# Altium schematic symbol library B-NT_P.SchLib: 39 symbols
Pins are listed as number, name and electrical type; pins without a type are passive.

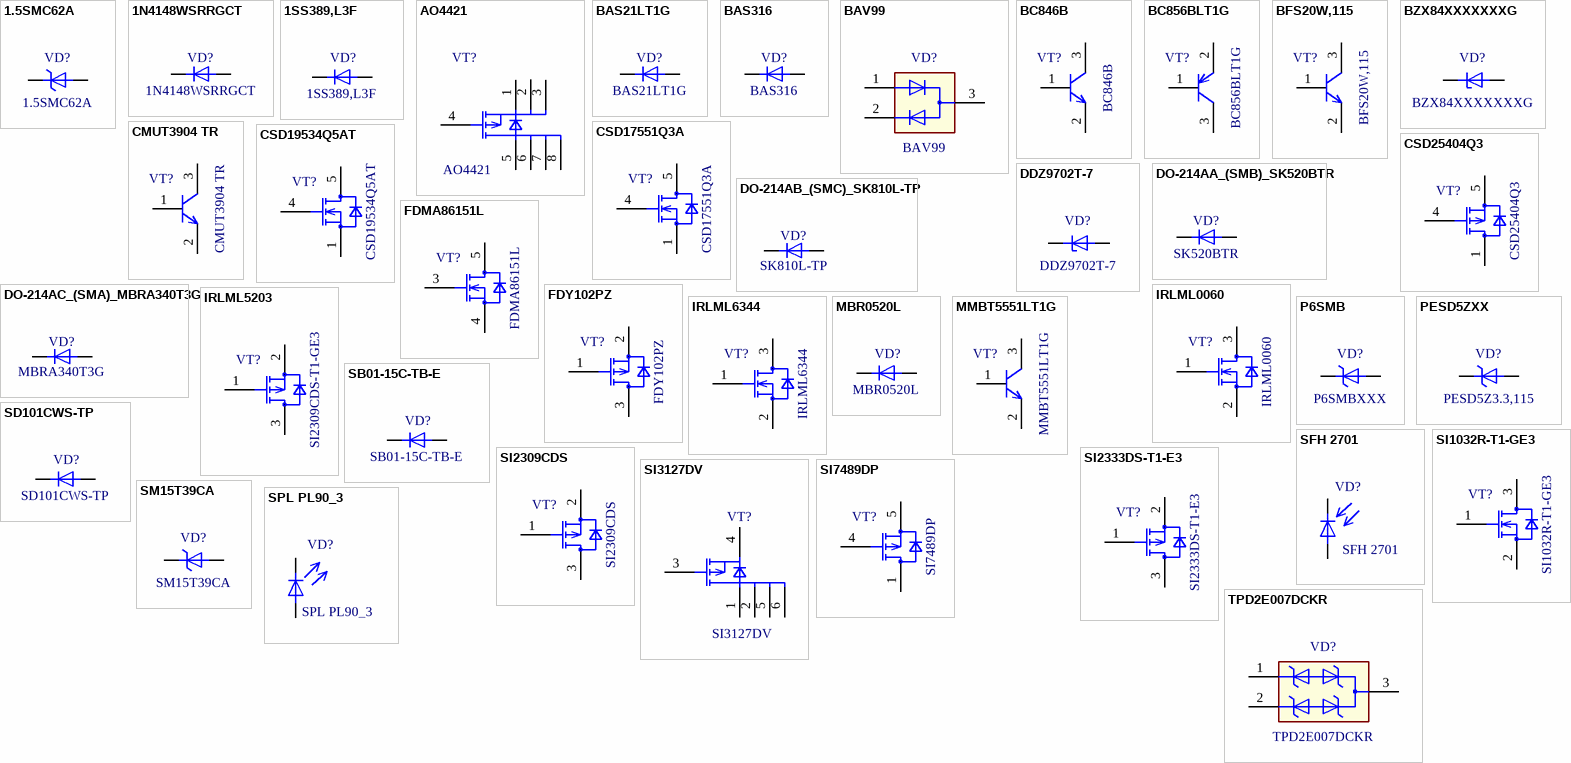
[diagram p0: symbols 1.5SMC62A to TPD2E007DCKR]

## 1.5SMC62A
designator VD?  value 1.5SMC62A
TVS DIODE 53V 85V DO214AB; ValueManufacturer: Vishay Semiconductor Diodes Division; PowerVoltage: 1.5kW; ValueDescription: 1.5SMC62A TVS диод 1.5kW  DO-214AB; ValueType: Zener Diodes; Price: 58.9V; ComponentLink1Description: r	Vishay Datasheet; ComponentLink1URL: http://www.vishay.com/docs/88303/15smc.pdf; Package: DO-214AB; ValueManufacturerPartNumber: 1.5SMC62A; Operating Temperature: -55°C ~ 150°C; CheckDate: SC *
footprint DO-214AB_(SMC)
pins: 1, 2
1 alternate drawing of the same symbol

## 1N4148WSRRGCT
designator VD?  value 1N4148WSRRGCT
DIODE GEN PURP 75V 150MA SOD323F; ValueManufacturer: Diodes Incorporated; PowerVoltage: 75V, 0.15A; ValueDescription: 1N4148WSRRGCT  SOD-323F  75V, 0.15A; ValueType: SMD Diode; Price: 0.17000; ComponentLink1Description: Taiwan Semiconductor Corporation Datasheet; ComponentLink1URL: http://www.taiwansemi.com/products/datasheet/1N4148WS%20SERIES_K1709.pdf; Package: SOD-323F; ValueManufacturerPartNumber: 1N4148WSRRGCT; Operating Temperature: -65°C~+150°C; CheckDate: *
footprint SOD-323F (SC-90, SOD-323F Body 1.8x1.35max)
pins: 1, 2

## 1SS389,L3F
designator VD?  value 1SS389,L3F
DIODE SCHOTTKY 10V 100MA ESC; ValueManufacturer: Toshiba Semiconductor and Storage; PowerVoltage: 10В 100мA(DC); TechSpec: (Vf) (Max) @ If=500mV @ 100mA; ValueDescription: 1SS389,L3F  SOD-523, SC-79  10В 100мA(DC)  (Vf) (Max) @ If=500mV @ 100mA; ValueType: Schottky Diode; Price: 0.22; Package: SOD-523, SC-79; ValueManufacturerPartNumber: 1SS389,L3F; Operating Temperature: -40°C ~ 125°C; CheckDate: SC *; ComponentLink1Description: Toshiba Semiconductor and Storage Datasheet; ComponentLink1URL: http://toshiba.semicon-storage.com/info/docget.jsp?did=3371&prodName=1SS389
footprint SOD-523
pins: 1 C, 2 A

## AO4421
designator VT?  value AO4421
MOSFET P-Channel 60V 6.2A 8SOIC; ValueManufacturer: Alpha&Omega; PowerVoltage: 60В 6.2A; ValueDescription: AO4421 Транзистор полевой P-канальный 60В 6.2A  soic-8; ValueType: MOSFET Transistor; Price: 0.81; ComponentLink1Description: Alpha&Omega; ComponentLink1URL: http://www.aosmd.com/res/data_sheets/AO4421.pdf; Package: soic-8; ValueManufacturerPartNumber: AO4421; Operating Temperature: -55°C~150°C; CheckDate: SC *
footprint SOP-8-3.9X5-1.27 (SOIC, 8-Leads, Body 5x4mm, Pitch 1.27mm, IPC Medium Density)
pins: 1 S "Source", 2 S "Source", 3 S "Source", 4 G "Gate", 5 D "Drain", 6 D "Drain", 7 D "Drain", 8 D "Drain"

## BAS21LT1G
designator VD?  value BAS21LT1G
SOT-23-3 Diode 250V 200mA; ValueManufacturer: ON Semiconductor; PowerVoltage: 250В 200мA; Tolerance: Vf=1.25V@200mA Ir=100nA@200V; ValueDescription: BAS21LT1G  SOT-23-3 (TO-236)  250В 200мA; ValueType: SMD Diode; Price: 0.11; ComponentLink1Description: ON Semiconductor Datasheet; ComponentLink1URL: http://www.onsemi.com/pub_link/Collateral/BAS19LT1-D.PDF; Package: SOT-23-3 (TO-236); ValueManufacturerPartNumber: BAS21LT1G; Operating Temperature: -55°C~150°C; CheckDate: SC 15.01.17
footprint TSOT23-3-1.4X3-0.95 (SOT23, 3-Leads, Body 3x1.4 mm, Pitch 0.95mm,)
pins: 1, 3

## BAS316
designator VD?  value BAS316
Diode 100V 250mA (DC) SOD-323; ValueManufacturer: Nexperia USA; PowerVoltage: 100В 250мA; Tolerance: Vf=1.25V@150мA Ir=100mkA@100V; ValueDescription: BAS316  SOD-323  100В 250мA; ValueType: SMD Diode; Price: 0.22; ComponentLink1Description: Nexperia USA; ComponentLink1URL: http://assets.nexperia.com/documents/data-sheet/BAS16_SER.pdf; Package: SOD-323; ValueManufacturerPartNumber: BAS316; Operating Temperature: -65°C~150°C; CheckDate: SC 22.03.17
footprint SOD-323
pins: 1, 2
1 alternate drawing of the same symbol

## BAV99
designator VD?  value BAV99
DIODE ARRAY GP 70V 200MA SOT23-3; ValueManufacturer: Fairchild; PowerVoltage: 70В 200мА; Tolerance: 1.25V@150mA; ValueDescription: BAV99  SOT-23-3 (TO-236) Сборка диодная 70В 200мА; Price: 0.21; ComponentLink1Description: Fairchild Datasheet; ComponentLink1URL: https://www.fairchildsemi.com/datasheets/BA/BAV99.pdf; Package: SOT-23-3 (TO-236); ValueManufacturerPartNumber: BAV99; ValueType: Diode Array; Operating Temperature: -55°C~150°C; CheckDate: SC 04.01.17
footprint TSOT23-3-1.4X3-0.95 (SOT23, 3-Leads, Body 3x1.4 mm, Pitch 0.95mm,)
pins: 1, 2, 3

## BC846B
designator VT?  value BC846B
BIPOLAR TRANS NPN 65V 0.1A SOT-23; ValueManufacturer: ON Semiconductor; PowerVoltage: 65В 100мА; ValueDescription: BC846B Транзистор биполярный NPN 65В 100мА  SOT-23-3 TO-236-3; ValueType: NPN Transistor; Price: 0.12; ComponentLink1Description: ON Semiconductor Datasheet; ComponentLink1URL: http://www.onsemi.ru.com/pub_link/Collateral/MMBT5550LT1-D.PDF; Package: SOT-23-3 TO-236-3; ValueManufacturerPartNumber: BC846B; Operating Temperature: 150°C (TJ); CheckDate: SC *
footprint TSOT23-3-1.4X3-0.95 (SOT23, 3-Leads, Body 3x1.4 mm, Pitch 0.95mm,)
pins: 1 B "Base", 2 E "Emiter", 3 C "Collector"

## BC856BLT1G
designator VT?  value BC856BLT1G
BIPOLAR TRANS PNP 65V 0.1A SOT23; ValueManufacturer: ON Semiconductor; PowerVoltage: 65В 100мА; ValueDescription: BC856BLT1G Транзистор биполярный PNP 65В 100мА  SOT-23-3 TO-236-3; ValueType: PNP Transistor; Price: 0.12; ComponentLink1Description: ON Semiconductor Datasheet; ComponentLink1URL: http://www.onsemi.ru.com/pub_link/Collateral/MMBT5550LT1-D.PDF; Package: SOT-23-3 TO-236-3; ValueManufacturerPartNumber: BC856BLT1G; Operating Temperature: -55°C ~ 150°C (TJ); CheckDate: SC *
footprint TSOT23-3-1.4X3-0.95 (SOT23, 3-Leads, Body 3x1.4 mm, Pitch 0.95mm,)
pins: 1 B "Base", 2 E "Emiter", 3 C "Collector"

## BFS20W,115
designator VT?  value BFS20W,115
BIPOLAR TRANS NPN 20V 0.025A SOT323; ValueManufacturer: Nexperia USA; PowerVoltage: 20В 25мА; ValueDescription: BFS20W,115 Транзистор биполярный NPN 20В 25мА  SOT-323, SC-70; ValueType: NPN Transistor; Price: 0.39; ComponentLink1Description: Nexperia USA  Datasheet; ComponentLink1URL: https://assets.nexperia.com/documents/data-sheet/BFS20W.pdf; Package: SOT-323, SC-70; ValueManufacturerPartNumber: BFS20W,115; Operating Temperature: 150°C (TJ); CheckDate: SC *
footprint SOT323-3-1.25X2.1-0.65 (SOT323, 3-Leads, Body 2x1.25mm, Pitch 0.65mm)
pins: 1 B "Base", 2 E "Emiter", 3 C "Collector"

## BZX84XXXXXXXG
designator VD?  value BZX84XXXXXXXG
ZENER DIODE 225MW SOT23-3; ValueManufacturer: Diodes Incorporated; ValueDescription: BZX84XXXXXXXG Стабилитрон 225mW  SOT-23-3; ValueType: Zener Diodes; Price: 0.16; ComponentLink1Description: Diodes Incorporated Datasheet; ComponentLink1URL: http://www.diodes.com/_files/datasheets/ds18001.pdf; Package: SOT-23-3; PowerVoltage: 225mW; ValueManufacturerPartNumber: BZX84XXXXXXXG; Operating Temperature: -65°C~150°C; CheckDate: SC 15.01.17
footprint TSOT23-3-1.4X3-0.95 (SOT23, 3-Leads, Body 3x1.4 mm, Pitch 0.95mm,)
pins: 1, 3

## CMUT3904 TR
designator VT?  value CMUT3904 TR
BIPOLAR TRANS NPN 40V 0.2A SOT523; ValueManufacturer: ON Semiconductor; PowerVoltage: 40В 200мА; ValueDescription: CMUT3904 TR Транзистор биполярный NPN 40В 200мА  SOT-523; ValueType: NPN Transistor; Price: 0.5; ComponentLink1Description: Central Semiconductor Corp Datasheet; ComponentLink1URL: https://www.centralsemi.com/get_document.php?cmp=1&mergetype=pd&mergepath=pd&pdf_id=CMUT3904-3906.PDF; Package: SOT-523; ValueManufacturerPartNumber: CMUT3904 TR; Operating Temperature: -65°C ~ 150°C (TJ); CheckDate: SC delete; PublicationData: 28.03.18; Publisher: Makarevich
footprint SOT523-1.6X0.8-1.0 (SOT523, 3-Leads, Body 1.6x0.8mm, Pitch 1mm)
pins: 1 B "Base", 2 E "Emiter", 3 C "Collector"

## CSD17551Q3A
designator VT?  value CSD17551Q3A
MOSFET N-CH 30V 12A 8SON 3.3x3.3; ValueManufacturer: Texas Instruments; PowerVoltage: 30V 12A; ValueDescription: CSD17551Q3A Транзистор полевой N-канальный 30V 12A  8-PowerTDFN(8-SON 3.3x3.3); ValueType: MOSFET Transistor; Price: 0.94; ComponentLink1Description: Texas Instruments Datasheet; ComponentLink1URL: http://www.ti.com/lit/ds/symlink/csd17551q3a.pdf; Package: 8-PowerTDFN(8-SON 3.3x3.3); ValueManufacturerPartNumber: CSD17551Q3A; Operating Temperature: -55°C~150°C; CheckDate: SC 28.10.17
footprint PSON-8-3.3x3.3-T (VSON, 8-Leads, Body 3.3x3.3mm, Pitch 0.65mm)
pins: 1 S "Source", 4 G "Gate", 5 D "Drain"

## CSD19534Q5AT
designator VT?  value CSD19534Q5AT
MOSFET N-Channel 100V 50A 8-VSON (5x6); ValueManufacturer: Texas Instruments; PowerVoltage: 100В 50A; ValueDescription: CSD19534Q5AT Транзистор полевой N-канальный 100В 50A  8-PowerTDFN(8-VSON 5x6); ValueType: MOSFET Transistor; Price: 1.12; ComponentLink1Description: Texas Instruments Datasheet; ComponentLink1URL: http://www.ti.com/lit/ds/symlink/csd19534q5a.pdf; Package: 8-PowerTDFN(8-VSON 5x6); ValueManufacturerPartNumber: CSD19534Q5AT; Operating Temperature: -55°C~150°C; CheckDate: SC 25.12.16
footprint PVSON-8-5X6-T (TDSON, 8-Leads, Body 6x5mm, Pitch 1.27mm)
pins: 1 S "Source", 4 G "Gate", 5 D "Drain"

## CSD25404Q3
designator VT?  value CSD25404Q3
MOSFET P-CH 20V 104A 8SON; ValueManufacturer: Texas Instruments; ValueDescription: CSD25404Q3 Транзистор полевой P-канальный 20V 104A  8-PowerVDFN (8-SON 3.3x3.3); ValueType: MOSFET Transistor; Price: 1.18; ComponentLink1Description: Texas Instruments Datasheet; ComponentLink1URL: http://www.ti.com/lit/ds/symlink/csd25404q3.pdf; Package: 8-PowerVDFN (8-SON 3.3x3.3); PowerVoltage: 20V 104A; ValueManufacturerPartNumber: CSD25404Q3; Operating Temperature: -55°C~150°C; CheckDate: SC 28.10.17
footprint PSON-8-3.3x3.3-T (VSON, 8-Leads, Body 3.3x3.3mm, Pitch 0.65mm)
pins: 1 S "Source", 4 G "Gate", 5 D "Drain"

## DDZ9702T-7
designator VD?  value DDZ9702T-7
DIODE ZENER 15V 150MW SOD523; ValueManufacturer: Diodes Incorporated; PowerVoltage: 15V, 150mW; Tolerance: ±5%; ValueDescription: DDZ9702T-7 Стабилитрон 15V, 150mW  SOD-523; ValueType: Zener Diodes; Price: 0.51; ComponentLink1Description: Diodes Incorporated Datasheet; ComponentLink1URL: https://www.diodes.com/assets/Datasheets/ds30553.pdf; Package: SOD-523; ValueManufacturerPartNumber: DDZ9702T-7; Operating Temperature: -65°C~150°C; CheckDate: SC *
footprint SOD-523
pins: 1, 2
1 alternate drawing of the same symbol

## DO-214AA_(SMB)_SK520BTR
designator VD?  value SK520BTR
SMB Diode Schottky 200V 5A; ValueManufacturer: SMC Diode Solutions; PowerVoltage: 200В 5A; Tolerance: Vf=1.1V@5A Ir=1mA@200V; ValueDescription: SK520BTR  DO-214AA (SMB)  200В 5A; ValueType: SMD Diode; Price: 0.5; ComponentLink1Description: SMC Diode Solutions Datasheet; ComponentLink1URL: http://www.smc-diodes.com/propdf/SK520B%20N0952%20REV.-.pdf; Package: DO-214AA (SMB); ValueManufacturerPartNumber: SK520BTR; Operating Temperature: -55°C~150°C; CheckDate: SC 18.12.16
footprint DO-214AA_(SMB)
pins: 1, 2
1 alternate drawing of the same symbol

## DO-214AB_(SMC)_SK810L-TP
designator VD?  value SK810L-TP
SMC Diode Schottky 100V 8A; ValueManufacturer: SMC Diode Solutions; PowerVoltage: 100В 8A; Tolerance: Vf=800mV@8A Ir=1mA@100V; ValueDescription: SK810L-TP  DO-214AB (SMC)  100В 8A; ValueType: SMD Diode; Price: 0.75; ComponentLink1Description: SMC Diode Solutions Datasheet; ComponentLink1URL: http://www.mccsemi.com/up_pdf/SK82L-SK810L(SMC).PDF; Package: DO-214AB (SMC); ValueManufacturerPartNumber: SK810L-TP; Operating Temperature: -55°C~150°C; CheckDate: SC 18.12.16
footprint DO-214AB_(SMC)
pins: 1, 2
1 alternate drawing of the same symbol

## DO-214AC_(SMA)_MBRA340T3G
designator VD?  value MBRA340T3G
SMA Diode Schottky 40V 3A; ValueManufacturer: ON Semiconductor; PowerVoltage: 40В 3A; Tolerance: Vf=450mV@3A Ir=500µA@100V; ValueDescription: MBRA340T3G  DO-214AC (SMA)  40В 3A; ValueType: SMD Diode; Price: 0.5; ComponentLink1Description: ON Semiconductor Datasheet; ComponentLink1URL: http://www.onsemi.com/pub_link/Collateral/MBRA340T3-D.PDF; Package: DO-214AC (SMA); ValueManufacturerPartNumber: MBRA340T3G; Operating Temperature: -55°C~150°C; CheckDate: SC 18.12.16
footprint DO-214AC_(SMA)
pins: 1, 2
1 alternate drawing of the same symbol

## FDMA86151L
designator VT?  value FDMA86151L
MOSFET N-CH 100V 3.3A 6-MLP; ValueManufacturer: ON Semiconductor; ValueDescription: FDMA86151L Транзистор полевой N-канальный 100V 3.3A  6-MicroFET (2x2) (6-WDFN Exposed Pad); ValueType: MOSFET Transistor; Price: 0.92; ComponentLink1Description: ON Semiconductor Datasheet; ComponentLink1URL: https://www.fairchildsemi.com/datasheets/FD/FDMA86151L.pdf; Package: 6-MicroFET (2x2) (6-WDFN Exposed Pad); PowerVoltage: 100V 3.3A; ValueManufacturerPartNumber: FDMA86151L; Operating Temperature: -55°C ~ 150°C (TJ); CheckDate: SC *
footprint WDFN-6-2x2- 0.65_FDMA86151L
pins: 3 G "Gate", 4 S "Source", 5 D "Drain"

## FDY102PZ
designator VT?  value FDY102PZ
MOSFET P-CH 20V 0.83A SC89-3; ValueManufacturer: ON Semiconductor; PowerVoltage: 20В 830mA; ValueDescription: FDY102PZ Транзистор полевой P-канальный 20В 830mA  SC-89 SOT-490; ValueType: MOSFET Transistor; Price: 0.58; ComponentLink1Description: ON Semiconductor Datasheet; ComponentLink1URL: https://www.fairchildsemi.com/datasheets/FD/FDY102PZ.pdf; Package: SC-89 SOT-490; ValueManufacturerPartNumber: FDY102PZ; Operating Temperature: -55°C~150°C; CheckDate: SC *
footprint SC-89-3 (SC-89-3, 3-Leads, Body 1,60x1,60mm, Pitch 0,50mm, IPC Medium Density)
pins: 1 G "Gate", 2 S "Source", 3 D "Drain"

## IRLML0060
designator VT?  value IRLML0060
MOSFET N-CH 60V 2.7A SOT-23-3; ValueManufacturer: Infineon Technologies; PowerVoltage: 60В 2.7A; ValueDescription: IRLML0060 Транзистор полевой N-канальный 60В 2.7A  SOT-23-3 TO-236-3; ValueType: MOSFET Transistor; Price: 0.57; ComponentLink1Description: Infineon Technologies Datasheet; ComponentLink1URL: https://www.infineon.com/dgdl/irlml0060pbf.pdf?fileId=5546d462533600a40153566493ef25e6; Package: SOT-23-3 TO-236-3; ValueManufacturerPartNumber: IRLML0060; Operating Temperature: -55°C~150°C; CheckDate: SC 04.05.18
footprint TSOT23-3-1.4X3-0.95 (SOT23, 3-Leads, Body 3x1.4 mm, Pitch 0.95mm,)
pins: 1 B "Base", 2 E "Ground", 3 C "Collector"

## IRLML5203
designator VT?  value SI2309CDS-T1-GE3
MOSFET P-CH 30V 3A SOT-23-3; ValueManufacturer: Infineon Technologies; PowerVoltage: 30В 3A; ValueDescription: SI2309CDS-T1-GE3 Транзистор полевой P-канальный 30В 3A  SOT-23-3 TO-236-3; ValueType: MOSFET Transistor; Price: 0.36; ComponentLink1Description: Infineon Technologies Datasheet; ComponentLink1URL: http://www.infineon.com/dgdl/irlml5203pbf.pdf?fileId=5546d462533600a40153566868da261d; Package: SOT-23-3 TO-236-3; ValueManufacturerPartNumber: SI2309CDS-T1-GE3; Operating Temperature: -55°C~150°C; CheckDate: SC 03.03.17
footprint TSOT23-3-1.4X3-0.95 (SOT23, 3-Leads, Body 3x1.4 mm, Pitch 0.95mm,)
pins: 1 B "Base", 2 E "Ground", 3 C "Collector"

## IRLML6344
designator VT?  value IRLML6344
MOSFET N-CH 30V 5A SOT-23-3; ValueManufacturer: Infineon Technologies; PowerVoltage: 30В 5A; ValueDescription: IRLML6344 Транзистор полевой N-канальный 30В 5A  SOT-23-3 TO-236-3; ValueType: MOSFET Transistor; Price: 0.36; ComponentLink1Description: Infineon Technologies Datasheet; ComponentLink1URL: http://www.infineon.com/dgdl/irlml6344pbf.pdf?fileId=5546d462533600a4015356689c44262c; Package: SOT-23-3 TO-236-3; ValueManufacturerPartNumber: IRLML6344; Operating Temperature: -55°C~150°C; CheckDate: SC 25.12.16
footprint TSOT23-3-1.4X3-0.95 (SOT23, 3-Leads, Body 3x1.4 mm, Pitch 0.95mm,)
pins: 1 B "Base", 2 E "Ground", 3 C "Collector"

## MBR0520L
designator VD?  value MBR0520L
DIODE SCHOTTKY 20V 500MA SOD123; ValueManufacturer: ON Semiconductor; PowerVoltage: 20В 500мA; TechSpec: (Vf) (Max) @ If=385mV @ 500mA; ValueDescription: MBR0520L  SOD-123  20В 500мA  (Vf) (Max) @ If=385mV @ 500mA; ValueType: Schottky Diode; Price: 0.39; Package: SOD-123; ValueManufacturerPartNumber: MBR0520L; Operating Temperature: -65°C~125°C; CheckDate: SC *; ComponentLink1Description: ON Semiconductor Datasheet; ComponentLink1URL: https://www.fairchildsemi.com/datasheets/MB/MBR0520L.pdf
footprint sod-123 (SODFL, 2-Leads, Body 1,60x3,75mm, IPC Medium Density)
pins: 1 C, 2 A

## MMBT5551LT1G
designator VT?  value MMBT5551LT1G
NPN Bipolar Transistor 160V 600mA SOT-23-3; ValueManufacturer: ON Semiconductor; PowerVoltage: 160В 600мА; ValueDescription: MMBT5551LT1G Транзистор биполярный NPN 160В 600мА  SOT-23-3 TO-236-3; ValueType: NPN Transistor; Price: 0.20; ComponentLink1Description: ON Semiconductor Datasheet; ComponentLink1URL: http://www.onsemi.ru.com/pub_link/Collateral/MMBT5550LT1-D.PDF; Package: SOT-23-3 TO-236-3; ValueManufacturerPartNumber: MMBT5551LT1G; Operating Temperature: -55°C~150°C; CheckDate: SC 25.12.16
footprint TSOT23-3-1.4X3-0.95 (SOT23, 3-Leads, Body 3x1.4 mm, Pitch 0.95mm,)
pins: 1 B "Base", 2 E "Emiter", 3 C "Collector"

## P6SMB
designator VD?  value P6SMBXXX
TVS Diodes 600W DO-214AA (SMB); ValueManufacturer: Littelfuse; ValueManufacturerPartNumber: P6SMB; PowerVoltage: 600Вт; ValueDescription: P6SMBXXX TVS диод 600Вт  DO-214AA (SMB); Price: 0.45; ComponentLink1Description: Littelfuse Datasheet; ComponentLink1URL: http://www.littelfuse.com/~/media/electronics/datasheets/tvs_diodes/littelfuse_tvs_diode_p6smb_datasheet.pdf.pdf; Package: DO-214AA (SMB); ValueType: TVS Diodes; Operating Temperature: -55°C~150°C; CheckDate: SC 25.12.16
footprint DO-214AA_(SMB)
pins: 1, 2
1 alternate drawing of the same symbol

## PESD5ZXX
designator VD?  value PESD5Z3.3,115
TVS DIODE 3.3V 18VC SOD523; ValueManufacturer: Nexperia USA; PowerVoltage: 18V, 260kW; ValueDescription: PESD5Z3.3,115 TVS диод 18V, 260kW  SOD-523; Price: 0.46; ComponentLink1Description: Nexperia USA Datasheet; ComponentLink1URL: http://assets.nexperia.com/documents/data-sheet/PESD5ZX_SER.pdf; Package: SOD-523; ValueManufacturerPartNumber: PESD5Z3.3,115; ValueType: TVS DIODE; Operating Temperature: -65°C~150°C; CheckDate: SC 12.11.17
footprint SOD-523
pins: 1, 2
1 alternate drawing of the same symbol

## SB01-15C-TB-E
designator VD?  value SB01-15C-TB-E
DIODE SCHOTTKY 150V 100MA; ValueManufacturer: ON Semiconductor; PowerVoltage: 150В 100мA(DC); TechSpec: (Vf) (Max) @ If=750mV @ 100mA; ValueDescription: SB01-15C-TB-E  TO-236-3, SC-59, SOT-23-3  150В 100мA(DC)  (Vf) (Max) @ If=750mV @ 100mA; ValueType: Schottky Diode; Price: 0.44; Package: TO-236-3, SC-59, SOT-23-3; ValueManufacturerPartNumber: SB01-15C-TB-E; Operating Temperature: -55°C ~ 125°C; CheckDate: SC *; ComponentLink1Description: ON Semiconductor Datasheet; ComponentLink1URL: http://www.onsemi.com/pub/Collateral/SB01-15C-D.PDF
footprint TSOT23-3-1.4X3-0.95 (SOT23, 3-Leads, Body 3x1.4 mm, Pitch 0.95mm,)
pins: 1 A, 3 C

## SD101CWS-TP
designator VD?  value SD101CWS-TP
DIODE SCHOTTKY 40V 15MA SOD323; ValueManufacturer: Micro Commercial Co; PowerVoltage: 40В 15мA(DC); TechSpec: (Vf) (Max) @ If=900mV @ 15mA; ValueDescription: SD101CWS-TP  SOD-323, SC-76  40В 15мA(DC)  (Vf) (Max) @ If=900mV @ 15mA; ValueType: Schottky Diode; Price: 0.37; ComponentLink1Description: Micro Commercial Datasheet; ComponentLink1URL: http://www.mccsemi.com/up_pdf/SD101AWS-SD101CWS(SOD-323).PDF; Package: SOD-323, SC-76; ValueManufacturerPartNumber: SD101CWS-TP; Operating Temperature: -55°C ~ 125°C; CheckDate: SC *
footprint SOD-323 (SC-76, SOD-323 Body 1.8x1.35max)
pins: 1 C, 2 A

## SFH 2701
designator VD?  value SFH 2701
PHOTODIODE PIN 820NM SMD; ValueManufacturer: OSRAM Opto Semiconductors Inc; ValueDescription: SFH 2701  2-SMD; Price: 0.96; ComponentLink1Description: OSRAM Opto Semiconductors  Datasheet; ComponentLink1URL: https://dammedia.osram.info/media/resource/hires/osram-dam-2495903/SFH%202701.pdf; Package: 2-SMD; Tolerance: 820nm; ValueManufacturerPartNumber: SFH 2701; ValueType: PHOTODIODE PIN; Operating Temperature: -40°C ~ 85°C; CheckDate: SC *
footprint SFH 2701 (Body 1.65x3.35 mm max)
pins: 1 С, 2 A

## SI1032R-T1-GE3
designator VT?  value SI1032R-T1-GE3
MOSFET N-CH 20V 140MA SC-75A; ValueManufacturer: Vishay Siliconix; PowerVoltage: 20В 140mA; ValueDescription: SI1032R-T1-GE3 Транзистор полевой N-канальный 20В 140mA  SC-75A; ValueType: MOSFET Transistor; Price: 0.54; ComponentLink1Description: Vishay Datasheet; ComponentLink1URL: http://www.vishay.com/docs/71172/si1032r.pdf; Package: SC-75A; ValueManufacturerPartNumber: SI1032R-T1-GE3; Operating Temperature: -55°C~150°C; CheckDate: SC *
footprint sc-75a (SC-75A, 3-Leads, Body 1,58x1,60mm, Pitch 0,50mm, IPC Medium Density)
pins: 1 G "Base", 2 S "Ground", 3 D "Collector"

## SI2309CDS
designator VT?  value SI2309CDS
MOSFET P-CH 60V 1.6A SOT23-3; ValueManufacturer: Vishay Siliconix; ValueManufacturerPartNumber: SI2309CDS-T1-GE3; PowerVoltage: 60В 1.6A; ValueDescription: SI2309CDS Транзистор полевой P-канальный 60В 1.6A  SOT-23-3 TO-236-3; ValueType: MOSFET Transistor; Price: 0.68; ComponentLink1Description: Vishay Siliconix Datasheet; ComponentLink1URL: http://www.vishay.com/docs/68980/si2309cd.pdf; Package: SOT-23-3 TO-236-3; Operating Temperature: -55°C~150°C; CheckDate: SC 04.05.18
footprint TSOT23-3-1.4X3-0.95 (SOT23, 3-Leads, Body 3x1.4 mm, Pitch 0.95mm,)
pins: 1 B "Base", 2 E "Ground", 3 C "Collector"

## SI2333DS-T1-E3
designator VT?  value SI2333DS-T1-E3
MOSFET P-CH 12V 4.1A SOT23-3; ValueManufacturer: Vishay Siliconix; PowerVoltage: 12В 4.1A; ValueDescription: SI2333DS-T1-E3 Транзистор полевой P-канальный 12В 4.1A  SOT-23-3; ValueType: MOSFET Transistor; Price: 0.82; Package: SOT-23-3; ValueManufacturerPartNumber: SI2333DS-T1-E3; Operating Temperature: -50°C~50°C; CheckDate: *; ComponentLink1Description: Vishay Datasheet; ComponentLink1URL: http://www.vishay.com/docs/72023/72023.pdf
footprint TSOT23-3-1.4X3-0.95 (SOT23, 3-Leads, Body 3x1.4 mm, Pitch 0.95mm,)
pins: 1 B "Base", 2 E "Ground", 3 C "Collector"

## SI3127DV
designator VT?  value SI3127DV
MOSFET P-CHAN 60V TSOP6S; ValueManufacturer: Vishay Siliconix; PowerVoltage: 60В 3.5A; ValueDescription: SI3127DV Транзистор полевой P-канальный 60В 3.5A  6-TSOP; ValueType: MOSFET Transistor; Price: 0.52; ComponentLink1Description: Vishay Siliconix Datasheet; ComponentLink1URL: http://www.vishay.com/docs/64282/si3127dv.pdf; Package: 6-TSOP; ValueManufacturerPartNumber: SI3127DV; Operating Temperature: -55°C~150°C; CheckDate: SC *
footprint TSOT23-6-1.4X3-0.95 (SSOT, 6-Leads, Body 2,9x1,75mm, Pitch 0,55mm)
pins: 1 D "Drain", 2 D "Drain", 3 G "Gate", 4 S "Source", 5 D "Drain", 6 D "Drain"

## SI7489DP
designator VT?  value SI7489DP
MOSFET P-CH 100V 28A 8-VSON (5x6); ValueManufacturer: Vishay Siliconix; PowerVoltage: 100В 28A; ValueDescription: SI7489DP Транзистор полевой P-канальный 100В 28A  8-PowerTDFN (8-VSON 5x6); ValueType: MOSFET Transistor; Price: 2.86; ComponentLink1Description: Vishay Siliconix Datasheet; ComponentLink1URL: http://www.vishay.com/docs/73436/si7489dp.pdf; Package: 8-PowerTDFN (8-VSON 5x6); ValueManufacturerPartNumber: SI7489DP; Operating Temperature: -55°C~150°C; CheckDate: SC 28.10.17
footprint PVSON-8-5X6-T (TDSON, 8-Leads, Body 6x5mm, Pitch 1.27mm)
pins: 1 S "Source", 4 G "Gate", 5 D "Drain"

## SM15T39CA
designator VD?  value SM15T39CA
TVS DIODE 33.3V 69.7V SMC; ValueManufacturer: STMicroelectronics; PowerVoltage: 1.5kW; ValueDescription: SM15T39CA TVS диод 1.5kW  DO-214AB; Price: 0.75; ComponentLink1Description: ST Datasheet; ComponentLink1URL: http://www.st.com/content/ccc/resource/technical/document/datasheet/a5/63/bb/0d/f0/b8/44/65/CD00000724.pdf/files/CD00000724.pdf/jcr:content/translations/en.CD00000724.pdf; Package: DO-214AB; ValueManufacturerPartNumber: SM15T39CA; ValueType: TVS Diode; Operating Temperature: -55°C~150°C; CheckDate: SC *
footprint DO-214AB_(SMC)
pins: 1, 2
1 alternate drawing of the same symbol

## SPL PL90_3
designator VD?  value SPL PL90_3
Laser Diodes NANOSTACK 75 W 905 nm; ValueManufacturer: OSRAM Opto Semiconductors Inc; PowerVoltage: 9V; TechSpec: 75 W; Tolerance: 905nm; ValueDescription: SPL PL90_3  5.9x5mm  9V  75 W; ValueType: Pulsed Laser Diode; Price: 35.74; ComponentLink1Description: OSRAM Opto Semiconductors  Datasheet; ComponentLink1URL: https://www.mouser.com/ds/2/311/SPL%20PL90_3-461392.pdf; Package: 5.9x5mm; ValueManufacturerPartNumber: SPL PL90_3; Operating Temperature: -40°C ~ 85°C; CheckDate: SC *
footprint SPL PL90_3_var2 (Pulsed Laser Diode in Plastic Package)
footprint SPL PL90_3 (Pulsed Laser Diode in Plastic Package)
pins: 1 С, 2 A

## TPD2E007DCKR
designator VD?  value TPD2E007DCKR
TVS DIODE SOT-323 SC-70-3; ValueManufacturer: Texas Instruments; PowerVoltage: 14В; ValueDescription: TPD2E007DCKR Сборка TVS-диодов 14В  SOT-323 SC-70-3; Price: 0.7; ComponentLink1Description: Texas Instruments Datasheet; ComponentLink1URL: http://www.ti.com/lit/ds/symlink/tpd2e007.pdf; Package: SOT-323 SC-70-3; ValueManufacturerPartNumber: TPD2E007DCKR; ValueType: TVS Diodes; Operating Temperature: -40°C~85°C; CheckDate: SC 25.12.16
footprint SOT323-3-1.25X2.1-0.65 (SOT323, 3-Leads, Body 2x1.25mm, Pitch 0.65mm)
pins: 1, 2, 3